# EAGLE library part MC_WT8266 (library 1_ZeroUI)
Library for WiFi module being used by ZeroUI
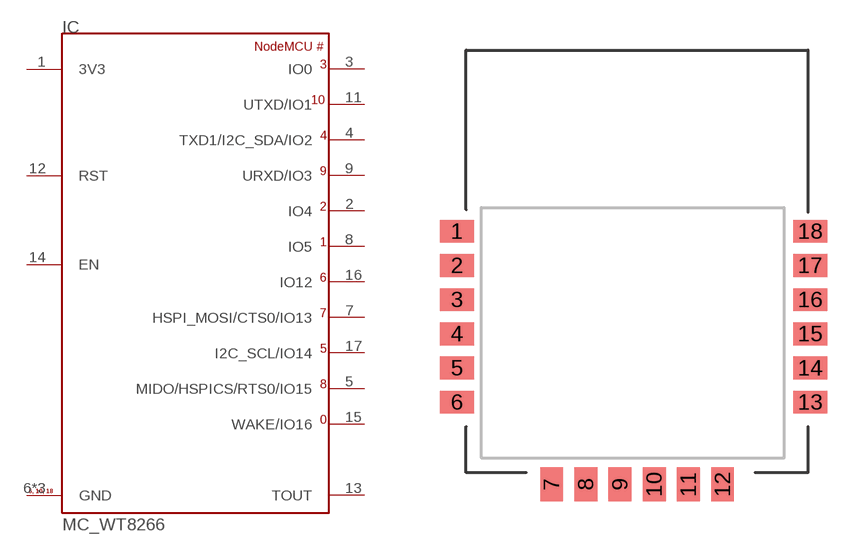
[diagram p1: symbol with the pads of WT8266; footprint WT8266]

Designator prefix IC

## MC_WT8266 (VALUE: WT8266)  [WT8266]
1  3V3
2  IO4
3  IO0
4  TXD1/I2C_SDA/IO2
5  MIDO/HSPICS/RTS0/IO15
6  GND
7  HSPI_MOSI/CTS0/IO13
8  IO5
9  URXD/IO3
10  GND
11  UTXD/IO1
12  RST
13  TOUT
14  EN
15  WAKE/IO16
16  IO12
17  I2C_SCL/IO14
18  GND

## Footprint WT8266 (pad centres in mm)
This is the WT8266 manufactured by Wireless-Tag. Library developed by ZeroUI
smd 1.5 x 1: 1 -7.9,1.35; 2 -7.9,-0.15; 3 -7.9,-1.65; 4 -7.9,-3.15; 5 -7.9,-4.65; 6 -7.9,-6.15; 13 7.6,-6.15; 14 7.6,-4.65; 15 7.6,-3.15; 16 7.6,-1.65; 17 7.6,-0.15; 18 7.6,1.35
smd 1 x 1.5: 7 -3.75,-9.75; 8 -2.25,-9.75; 9 -0.75,-9.75; 10 0.75,-9.75; 11 2.25,-9.75; 12 3.75,-9.75